# Altium schematic symbol library JLCPCB_RES_SMD_Basic.SchLib: 104 symbols (part 2 of 2)
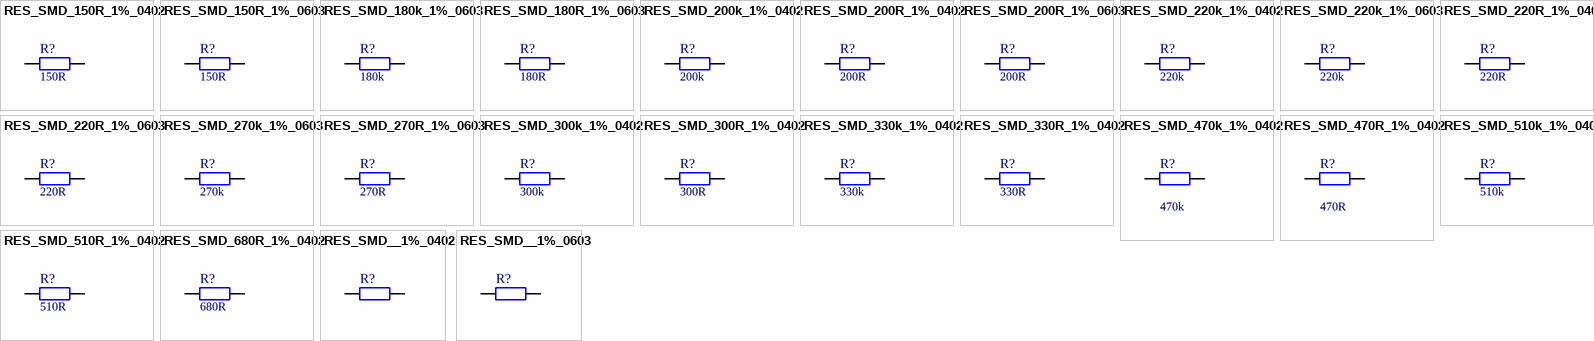
[diagram p3: symbols RES_SMD_150R_1%_0402 to RES_SMD__1%_0603]

## RES_SMD_150R_1%_0402
designator R?, comment value 150R  (hidden comment: basic)
150Ohms ±1% 1/16W 0402 Chip Resistor - Surface Mount RoHS; MFR_Part#: 0402WGF1500TCE; MFR_Name: Uniroyal Elec; Voltage: max: 50V; In stock: Yes; Voltage: overvoltage: 100V; Rated current of jumper: 1A; Rated current max of jumper: 2A; ComponentLink1Description: Datasheet; ComponentLink1URL: https://datasheet.lcsc.com/szlcsc/Uniroyal-Elec-0402WGF1500TCE_C25082.pdf; Power rating: 1/16W; Tolerance: 1%; Package: 0402; LCSC_Part#: C25082
footprint RES_0402_REFLOW (Chip Resistor, 2-Leads, Body 1,00x0,50mm, IPC Medium Density)
pins: 1, 2

## RES_SMD_150R_1%_0603
designator R?, comment value 150R  (hidden comment: basic)
150Ohms ±1% 1/10W 0603 Chip Resistor - Surface Mount RoHS; MFR_Part#: 0603WAF1500T5E; MFR_Name: Uniroyal Elec; Voltage: max: 50V; In stock: Yes; Voltage: overvoltage: 100V; Rated current of jumper: 1A; Rated current max of jumper: 2A; ComponentLink1Description: Datasheet; ComponentLink1URL: https://datasheet.lcsc.com/szlcsc/Uniroyal-Elec-0603WAF1500T5E_C22808.pdf; Power rating: 1/10W; Tolerance: 1%; Package: 0603; LCSC_Part#: C22808
footprint RES_0603_REFLOW (Chip Resistor, 2-Leads, Body 1,55x0,85mm, IPC Medium Density)
pins: 1, 2

## RES_SMD_180k_1%_0603
designator R?, comment value 180k  (hidden comment: basic)
180kOhms ±1% 1/10W 0603 Chip Resistor - Surface Mount RoHS; MFR_Part#: 0603WAF1803T5E; MFR_Name: Uniroyal Elec; Voltage: max: 50V; In stock: Yes; Voltage: overvoltage: 100V; Rated current of jumper: 1A; Rated current max of jumper: 2A; ComponentLink1Description: Datasheet; ComponentLink1URL: https://datasheet.lcsc.com/szlcsc/Uniroyal-Elec-0603WAF1803T5E_C22827.pdf; Power rating: 1/10W; Tolerance: 1%; Package: 0603; LCSC_Part#: C22827
footprint RES_0603_REFLOW (Chip Resistor, 2-Leads, Body 1,55x0,85mm, IPC Medium Density)
pins: 1, 2

## RES_SMD_180R_1%_0603
designator R?, comment value 180R  (hidden comment: basic)
180Ohms ±1% 1/10W 0603 Chip Resistor - Surface Mount RoHS; MFR_Part#: 0603WAF1800T5E; MFR_Name: Uniroyal Elec; Voltage: max: 50V; In stock: Yes; Voltage: overvoltage: 100V; Rated current of jumper: 1A; Rated current max of jumper: 2A; ComponentLink1Description: Datasheet; ComponentLink1URL: https://datasheet.lcsc.com/szlcsc/Uniroyal-Elec-0603WAF1800T5E_C22828.pdf; Power rating: 1/10W; Tolerance: 1%; Package: 0603; LCSC_Part#: C22828
footprint RES_0603_REFLOW (Chip Resistor, 2-Leads, Body 1,55x0,85mm, IPC Medium Density)
pins: 1, 2

## RES_SMD_200k_1%_0402
designator R?, comment value 200k  (hidden comment: basic)
200kOhms ±1% 1/16W 0402 Chip Resistor - Surface Mount RoHS; MFR_Part#: 0402WGF2003TCE; MFR_Name: Uniroyal Elec; Voltage: max: 50V; In stock: Yes; Voltage: overvoltage: 100V; Rated current of jumper: 1A; Rated current max of jumper: 2A; ComponentLink1Description: Datasheet; ComponentLink1URL: https://datasheet.lcsc.com/szlcsc/Uniroyal-Elec-0402WGF2003TCE_C25764.pdf; Power rating: 1/16W; Tolerance: 1%; Package: 0402; LCSC_Part#: C25764
footprint RES_0402_REFLOW (Chip Resistor, 2-Leads, Body 1,00x0,50mm, IPC Medium Density)
pins: 1, 2

## RES_SMD_200R_1%_0402
designator R?, comment value 200R  (hidden comment: basic)
200Ohms ±1% 1/16W 0402 Chip Resistor - Surface Mount RoHS; MFR_Part#: 0402WGF2000TCE; MFR_Name: Uniroyal Elec; Voltage: max: 50V; In stock: Yes; Voltage: overvoltage: 100V; Rated current of jumper: 1A; Rated current max of jumper: 2A; ComponentLink1Description: Datasheet; ComponentLink1URL: https://datasheet.lcsc.com/szlcsc/Uniroyal-Elec-0402WGF2000TCE_C25087.pdf; Power rating: 1/16W; Tolerance: 1%; Package: 0402; LCSC_Part#: C25087
footprint RES_0402_REFLOW (Chip Resistor, 2-Leads, Body 1,00x0,50mm, IPC Medium Density)
pins: 1, 2

## RES_SMD_200R_1%_0603
designator R?, comment value 200R  (hidden comment: basic)
200Ohms ±1% 1/10W 0603 Chip Resistor - Surface Mount RoHS; MFR_Part#: 0603WAF2000T5E; MFR_Name: Uniroyal Elec; Voltage: max: 50V; In stock: Yes; Voltage: overvoltage: 100V; Rated current of jumper: 1A; Rated current max of jumper: 2A; ComponentLink1Description: Datasheet; ComponentLink1URL: https://datasheet.lcsc.com/szlcsc/Uniroyal-Elec-0603WAF2000T5E_C8218.pdf; Power rating: 1/10W; Tolerance: 1%; Package: 0603; LCSC_Part#: C8218
footprint RES_0603_REFLOW (Chip Resistor, 2-Leads, Body 1,55x0,85mm, IPC Medium Density)
pins: 1, 2

## RES_SMD_220k_1%_0402
designator R?, comment value 220k  (hidden comment: basic)
220kOhms ±1% 1/16W 0402 Chip Resistor - Surface Mount RoHS; MFR_Part#: 0402WGF2203TCE; MFR_Name: Uniroyal Elec; Voltage: max: 50V; In stock: Yes; Voltage: overvoltage: 100V; Rated current of jumper: 1A; Rated current max of jumper: 2A; ComponentLink1Description: Datasheet; ComponentLink1URL: https://datasheet.lcsc.com/szlcsc/Uniroyal-Elec-0402WGF2203TCE_C25767.pdf; Power rating: 1/16W; Tolerance: 1%; Package: 0402; LCSC_Part#: C25767
footprint RES_0402_REFLOW (Chip Resistor, 2-Leads, Body 1,00x0,50mm, IPC Medium Density)
pins: 1, 2

## RES_SMD_220k_1%_0603
designator R?, comment value 220k  (hidden comment: basic)
220kOhms ±1% 1/10W 0603 Chip Resistor - Surface Mount RoHS; MFR_Part#: 0603WAF2203T5E; MFR_Name: Uniroyal Elec; Voltage: max: 50V; In stock: Yes; Voltage: overvoltage: 100V; Rated current of jumper: 1A; Rated current max of jumper: 2A; ComponentLink1Description: Datasheet; ComponentLink1URL: https://datasheet.lcsc.com/szlcsc/Uniroyal-Elec-0603WAF2203T5E_C22961.pdf; Power rating: 1/10W; Tolerance: 1%; Package: 0603; LCSC_Part#: C22961
footprint RES_0603_REFLOW (Chip Resistor, 2-Leads, Body 1,55x0,85mm, IPC Medium Density)
pins: 1, 2

## RES_SMD_220R_1%_0402
designator R?, comment value 220R  (hidden comment: basic)
220Ohms ±1% 1/16W 0402 Chip Resistor - Surface Mount RoHS; MFR_Part#: 0402WGF2200TCE; MFR_Name: Uniroyal Elec; Voltage: max: 50V; In stock: Yes; Voltage: overvoltage: 100V; Rated current of jumper: 1A; Rated current max of jumper: 2A; ComponentLink1Description: Datasheet; ComponentLink1URL: https://datasheet.lcsc.com/szlcsc/Uniroyal-Elec-0402WGF2200TCE_C25091.pdf; Power rating: 1/16W; Tolerance: 1%; Package: 0402; LCSC_Part#: C25091
footprint RES_0402_REFLOW (Chip Resistor, 2-Leads, Body 1,00x0,50mm, IPC Medium Density)
pins: 1, 2

## RES_SMD_220R_1%_0603
designator R?, comment value 220R  (hidden comment: basic)
220Ohms ±1% 1/10W 0603 Chip Resistor - Surface Mount RoHS; MFR_Part#: 0603WAF2200T5E; MFR_Name: Uniroyal Elec; Voltage: max: 50V; In stock: Yes; Voltage: overvoltage: 100V; Rated current of jumper: 1A; Rated current max of jumper: 2A; ComponentLink1Description: Datasheet; ComponentLink1URL: https://datasheet.lcsc.com/szlcsc/Uniroyal-Elec-0603WAF2200T5E_C22962.pdf; Power rating: 1/10W; Tolerance: 1%; Package: 0603; LCSC_Part#: C22962
footprint RES_0603_REFLOW (Chip Resistor, 2-Leads, Body 1,55x0,85mm, IPC Medium Density)
pins: 1, 2

## RES_SMD_270k_1%_0603
designator R?, comment value 270k  (hidden comment: basic)
270kOhms ±1% 1/10W 0603 Chip Resistor - Surface Mount RoHS; MFR_Part#: 0603WAF2703T5E; MFR_Name: Uniroyal Elec; Voltage: max: 50V; In stock: Yes; Voltage: overvoltage: 100V; Rated current of jumper: 1A; Rated current max of jumper: 2A; ComponentLink1Description: Datasheet; ComponentLink1URL: https://datasheet.lcsc.com/szlcsc/Uniroyal-Elec-0603WAF2703T5E_C22965.pdf; Power rating: 1/10W; Tolerance: 1%; Package: 0603; LCSC_Part#: C22965
footprint RES_0603_REFLOW (Chip Resistor, 2-Leads, Body 1,55x0,85mm, IPC Medium Density)
pins: 1, 2

## RES_SMD_270R_1%_0603
designator R?, comment value 270R  (hidden comment: basic)
270Ohms ±1% 1/10W 0603 Chip Resistor - Surface Mount RoHS; MFR_Part#: 0603WAF2700T5E; MFR_Name: Uniroyal Elec; Voltage: max: 50V; In stock: Yes; Voltage: overvoltage: 100V; Rated current of jumper: 1A; Rated current max of jumper: 2A; ComponentLink1Description: Datasheet; ComponentLink1URL: https://datasheet.lcsc.com/szlcsc/Uniroyal-Elec-0603WAF2700T5E_C22966.pdf; Power rating: 1/10W; Tolerance: 1%; Package: 0603; LCSC_Part#: C22966
footprint RES_0603_REFLOW (Chip Resistor, 2-Leads, Body 1,55x0,85mm, IPC Medium Density)
pins: 1, 2

## RES_SMD_300k_1%_0402
designator R?, comment value 300k  (hidden comment: basic)
300kOhms ±1% 1/16W 0402 Chip Resistor - Surface Mount RoHS; MFR_Part#: 0402WGF3003TCE; MFR_Name: Uniroyal Elec; Voltage: max: 50V; In stock: Yes; Voltage: overvoltage: 100V; Rated current of jumper: 1A; Rated current max of jumper: 2A; ComponentLink1Description: Datasheet; ComponentLink1URL: https://datasheet.lcsc.com/szlcsc/Uniroyal-Elec-0402WGF3003TCE_C25774.pdf; Power rating: 1/16W; Tolerance: 1%; Package: 0402; LCSC_Part#: C25774
footprint RES_0402_REFLOW (Chip Resistor, 2-Leads, Body 1,00x0,50mm, IPC Medium Density)
pins: 1, 2

## RES_SMD_300R_1%_0402
designator R?, comment value 300R  (hidden comment: basic)
300Ohms ±1% 1/16W 0402 Chip Resistor - Surface Mount RoHS; MFR_Part#: 0402WGF3000TCE; MFR_Name: Uniroyal Elec; Voltage: max: 50V; In stock: Yes; Voltage: overvoltage: 100V; Rated current of jumper: 1A; Rated current max of jumper: 2A; ComponentLink1Description: Datasheet; ComponentLink1URL: https://datasheet.lcsc.com/szlcsc/Uniroyal-Elec-0402WGF3000TCE_C25102.pdf; Power rating: 1/16W; Tolerance: 1%; Package: 0402; LCSC_Part#: C25102
footprint RES_0402_REFLOW (Chip Resistor, 2-Leads, Body 1,00x0,50mm, IPC Medium Density)
pins: 1, 2

## RES_SMD_330k_1%_0402
designator R?, comment value 330k  (hidden comment: basic)
330kOhms ±1% 1/16W 0402 Chip Resistor - Surface Mount RoHS; MFR_Part#: 0402WGF3303TCE; MFR_Name: Uniroyal Elec; Voltage: max: 50V; In stock: Yes; Voltage: overvoltage: 100V; Rated current of jumper: 1A; Rated current max of jumper: 2A; ComponentLink1Description: Datasheet; ComponentLink1URL: https://datasheet.lcsc.com/szlcsc/Uniroyal-Elec-0402WGF3303TCE_C25778.pdf; Power rating: 1/16W; Tolerance: 1%; Package: 0402; LCSC_Part#: C25778
footprint RES_0402_REFLOW (Chip Resistor, 2-Leads, Body 1,00x0,50mm, IPC Medium Density)
pins: 1, 2

## RES_SMD_330R_1%_0402
designator R?, comment value 330R  (hidden comment: basic)
330ROhms ±1% 1/16W 0402 Chip Resistor - Surface Mount RoHS; MFR_Part#: 0402WGF3300TCE; MFR_Name: Uniroyal Elec; Voltage: max: 50V; In stock: Yes; Voltage: overvoltage: 100V; Rated current of jumper: 1A; Rated current max of jumper: 2A; ComponentLink1Description: Datasheet; ComponentLink1URL: https://datasheet.lcsc.com/szlcsc/Uniroyal-Elec-0402WGF3300TCE_C25104.pdf; Power rating: 1/16W; Tolerance: 1%; Package: 0402; LCSC_Part#: C25104
footprint RES_0402_REFLOW (Chip Resistor, 2-Leads, Body 1,00x0,50mm, IPC Medium Density)
pins: 1, 2

## RES_SMD_470k_1%_0402
designator R?, comment value 470k  (hidden comment: basic)
470kOhms ±1% 1/16W 0402 Chip Resistor - Surface Mount RoHS; MFR_Part#: 0402WGF4703TCE; MFR_Name: Uniroyal Elec; Voltage: max: 50V; In stock: Yes; Voltage: overvoltage: 100V; Rated current of jumper: 1A; Rated current max of jumper: 2A; ComponentLink1Description: Datasheet; ComponentLink1URL: https://datasheet.lcsc.com/szlcsc/Uniroyal-Elec-0402WGF4703TCE_C25790.pdf; Power rating: 1/16W; Tolerance: 1%; Package: 0402; LCSC_Part#: C25790
footprint RES_0402_REFLOW (Chip Resistor, 2-Leads, Body 1,00x0,50mm, IPC Medium Density)
pins: 1, 2

## RES_SMD_470R_1%_0402
designator R?, comment value 470R  (hidden comment: basic)
470Ohms ±1% 1/16W 0402 Chip Resistor - Surface Mount RoHS; MFR_Part#: 0402WGF4700TCE; MFR_Name: Uniroyal Elec; Voltage: max: 50V; In stock: Yes; Voltage: overvoltage: 100V; Rated current of jumper: 1A; Rated current max of jumper: 2A; ComponentLink1Description: Datasheet; ComponentLink1URL: https://datasheet.lcsc.com/szlcsc/Uniroyal-Elec-0402WGF4700TCE_C25117.pdf; Power rating: 1/16W; Tolerance: 1%; Package: 0402; LCSC_Part#: C25117
footprint RES_0402_REFLOW (Chip Resistor, 2-Leads, Body 1,00x0,50mm, IPC Medium Density)
pins: 1, 2

## RES_SMD_510k_1%_0402
designator R?, comment value 510k  (hidden comment: basic)
510kOhms ±1% 1/16W 0402 Chip Resistor - Surface Mount RoHS; MFR_Part#: 0402WGF5103TCE; MFR_Name: Uniroyal Elec; Voltage: max: 50V; In stock: Yes; Voltage: overvoltage: 100V; Rated current of jumper: 1A; Rated current max of jumper: 2A; ComponentLink1Description: Datasheet; ComponentLink1URL: https://datasheet.lcsc.com/szlcsc/Uniroyal-Elec-0402WGF5103TCE_C11616.pdf; Power rating: 1/16W; Tolerance: 1%; Package: 0402; LCSC_Part#: C11616
footprint RES_0402_REFLOW (Chip Resistor, 2-Leads, Body 1,00x0,50mm, IPC Medium Density)
pins: 1, 2

## RES_SMD_510R_1%_0402
designator R?, comment value 510R  (hidden comment: basic)
510Ohms ±1% 1/16W 0402 Chip Resistor - Surface Mount RoHS; MFR_Part#: 0402WGF5100TCE; MFR_Name: Uniroyal Elec; Voltage: max: 50V; In stock: Yes; Voltage: overvoltage: 100V; Rated current of jumper: 1A; Rated current max of jumper: 2A; ComponentLink1Description: Datasheet; ComponentLink1URL: https://datasheet.lcsc.com/szlcsc/Uniroyal-Elec-0402WGF5100TCE_C25123.pdf; Power rating: 1/16W; Tolerance: 1%; Package: 0402; LCSC_Part#: C25123
footprint RES_0402_REFLOW (Chip Resistor, 2-Leads, Body 1,00x0,50mm, IPC Medium Density)
pins: 1, 2

## RES_SMD_680R_1%_0402
designator R?, comment value 680R  (hidden comment: basic)
680Ohms ±1% 1/16W 0402 Chip Resistor - Surface Mount RoHS; MFR_Part#: 0402WGF6800TCE; MFR_Name: Uniroyal Elec; Voltage: max: 50V; In stock: Yes; Voltage: overvoltage: 100V; Rated current of jumper: 1A; Rated current max of jumper: 2A; ComponentLink1Description: Datasheet; ComponentLink1URL: https://datasheet.lcsc.com/szlcsc/Uniroyal-Elec-0402WGF6800TCE_C25130.pdf; Power rating: 1/16W; Tolerance: 1%; Package: 0402; LCSC_Part#: C25130
footprint RES_0402_REFLOW (Chip Resistor, 2-Leads, Body 1,00x0,50mm, IPC Medium Density)
pins: 1, 2

## RES_SMD__1%_0402
designator R?, comment basic  (value not drawn)
Ohms ±1% 1/16W 0402 Chip Resistor - Surface Mount RoHS; MFR_Name: Uniroyal Elec; Voltage: max: 50V; In stock: Yes; Voltage: overvoltage: 100V; Rated current of jumper: 1A; Rated current max of jumper: 2A; ComponentLink1Description: Datasheet; Power rating: 1/16W; Tolerance: 1%; Package: 0402
footprint RES_0402_REFLOW (Chip Resistor, 2-Leads, Body 1,00x0,50mm, IPC Medium Density)
pins: 1, 2

## RES_SMD__1%_0603
designator R?, comment basic  (value not drawn)
Ohms ±1% 1/10W 0603 Chip Resistor - Surface Mount RoHS; MFR_Name: Uniroyal Elec; Voltage: max: 50V; In stock: Yes; Voltage: overvoltage: 100V; Rated current of jumper: 1A; Rated current max of jumper: 2A; ComponentLink1Description: Datasheet; Power rating: 1/10W; Tolerance: 1%; Package: 0603
footprint RES_0603_REFLOW (Chip Resistor, 2-Leads, Body 1,55x0,85mm, IPC Medium Density)
pins: 1, 2